# Altium schematic symbol library SHT11.SCHLIB: 2 symbols
Pins are listed as number, name and electrical type; pins without a type are passive.

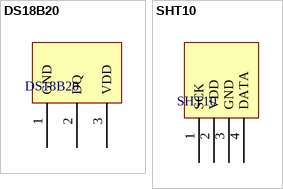
[diagram p0: symbols DS18B20 to SHT10]

## DS18B20
designator DS18B20
pins: 1 GND, 2 DQ, 3 VDD

## SHT10
designator SHT10
pins: 1 SCK, 2 VDD, 3 GND, 4 DATA